# Altium integrated library TI Amplifiers and Linear Operational Amplifier Precision Amplifier Part Two.IntLib: 2300 symbols (part 18 of 81)
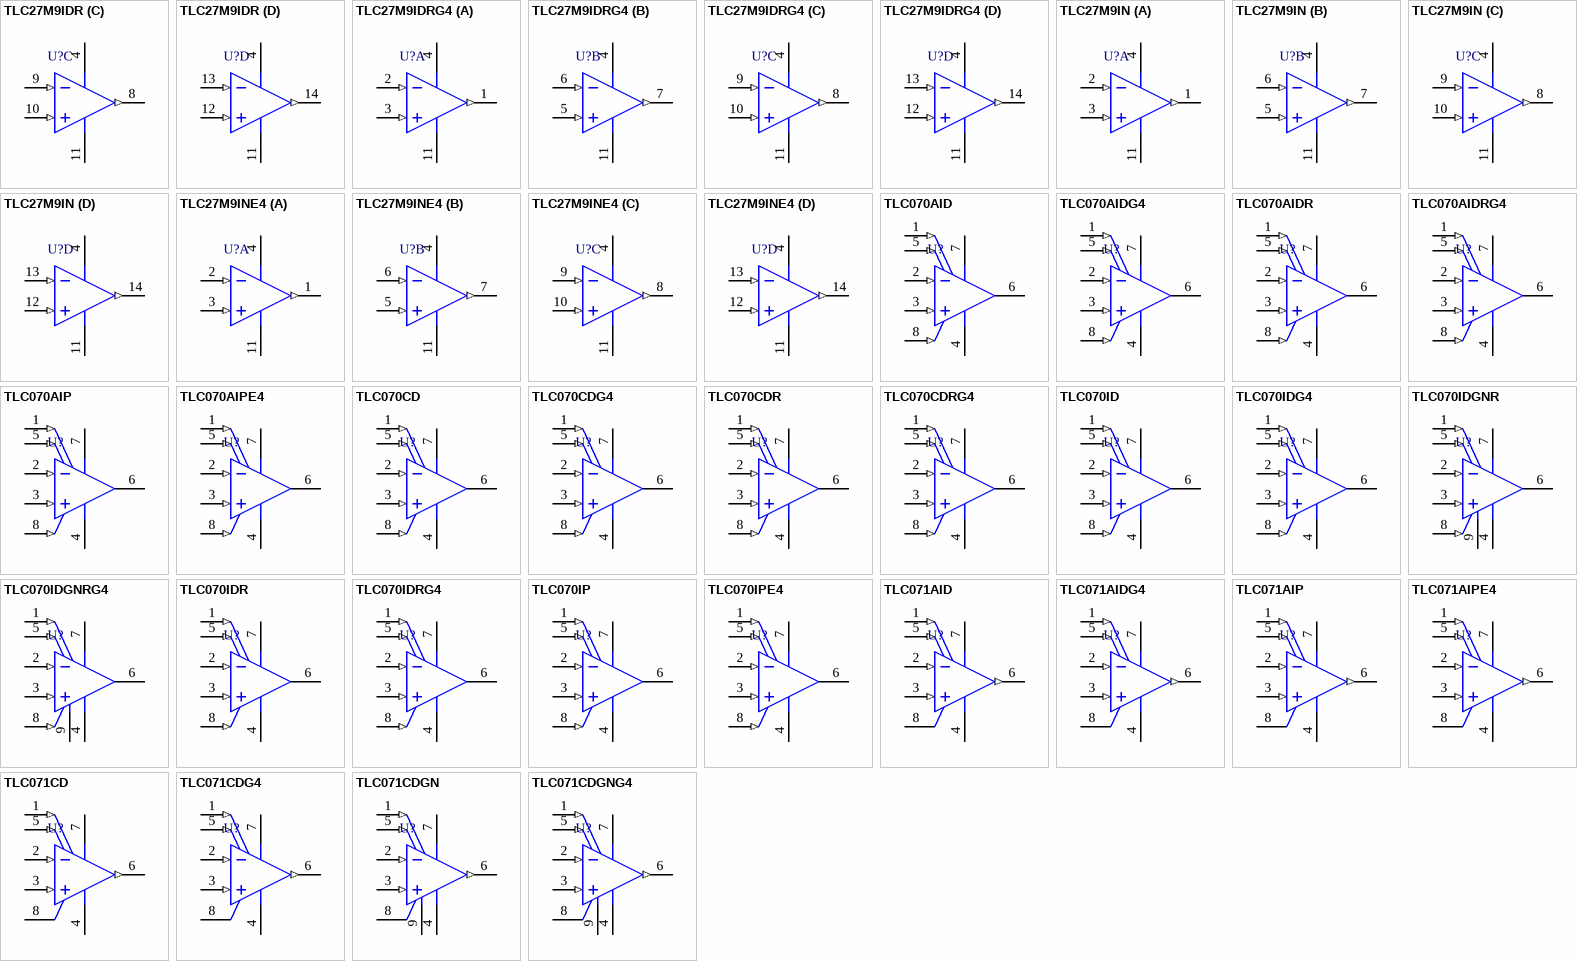
[diagram p153: symbols TLC27M9IDR to TLC071CDGNG4]

## TLC070CDR
designator U?
Single Wide-Bandwidth High-Output-Drive Operational Amplifier with Shutdown, 4.5 to 16 V, 0 to 70 degC, 8-pin SOIC (D8), Green (RoHS & no Sb/Br); Manufacturer: Texas Instruments; PartNumber: TLC070CDR; CMRR(Min)(dB): 80; GBW(Typ)(MHz): 10; IIB(Max)(pA): 50; Iq per channel(Max)(mA): 2.5; Number of Channels: 1; Offset Drift(Typ)(uV/C): 1.2; Packing: LARGE T&R; Rating: Catalog; Slew Rate(Typ)(V/us): 16; Sub Family: High Output Current Amplifier (>=50mA), Low Noise Amp (<=10nV/rtHz), Precision Amplifier; Total Supply Voltage(Min)(+5V is 5, +/-5V is 10): 4.5; Vio (25C)(Max)(mV): 1.9; DatasheetVersion: SLOS219F; PackageVersion: 4040047-3/M, 06/2011; PackageReference: D8; PackageDescription: 8-Pin Plastic Small Outline, Body 4.9 x 3.9 mm, Pitch 1.27 mm; Supplier 1: Digi-Key; Supplier Part Number 1: 296-2413-2-ND; Supplier 2: Digi-Key; Supplier Part Number 2: 296-2413-1-ND; Supplier 3: Digi-Key; Supplier Part Number 3: 296-2413-6-ND; Supplier 4: Mouser; Supplier Part Number 4: 595-TLC070CDR; Eco-Plan: Green (RoHS & no Sb/Br); Total Supply Voltage(Max)(+5V is 5, +/-5V is 10): 16; Mounting Technology: Surface Mount; Code_JEDEC: MS-012; ComponentLink1Description: Manufacturer URL; ComponentLink1URL: http://www.ti.com/; ComponentLink2Description: Datasheet; ComponentLink2URL: http://www.ti.com/lit/ds/symlink/tlc070.pdf; ComponentLink3Description: Package Specification; ComponentLink3URL: http://www.ti.com/litv/pdf/msoi002j
footprint TI-D8_N (SOIC, 8-Leads, Body 4.9x3.9mm, Pitch 1.27mm, IPC Medium Density)
footprint TI-D8_L (SOIC, 8-Leads, Body 4.9x3.9mm, Pitch 1.27mm, IPC High Density)
footprint TI-D8_M (SOIC, 8-Leads, Body 4.9x3.9mm, Pitch 1.27mm, IPC Low Density)
pins: 1 NULL (in), 2 IN- (in), 3 IN+ (in), 4 GND (power), 5 NULL (in), 6 OUT (hiz), 7 VDD (power), 8 ~{SHDN} (in)

## TLC070CDRG4
designator U?
Single Wide-Bandwidth High-Output-Drive Operational Amplifier with Shutdown, 4.5 to 16 V, 0 to 70 degC, 8-pin SOIC (D8), Green (RoHS & no Sb/Br); Manufacturer: Texas Instruments; PartNumber: TLC070CDRG4; CMRR(Min)(dB): 80; GBW(Typ)(MHz): 10; IIB(Max)(pA): 50; Iq per channel(Max)(mA): 2.5; Number of Channels: 1; Offset Drift(Typ)(uV/C): 1.2; Packing: LARGE T&R; Rating: Catalog; Slew Rate(Typ)(V/us): 16; Sub Family: High Output Current Amplifier (>=50mA), Low Noise Amp (<=10nV/rtHz), Precision Amplifier; Total Supply Voltage(Min)(+5V is 5, +/-5V is 10): 4.5; Vio (25C)(Max)(mV): 1.9; DatasheetVersion: SLOS219F; PackageVersion: 4040047-3/M, 06/2011; PackageReference: D8; PackageDescription: 8-Pin Plastic Small Outline, Body 4.9 x 3.9 mm, Pitch 1.27 mm; Supplier 1: Digi-Key; Supplier Part Number 1: TLC070CDRG4-ND; Supplier 2: Mouser; Supplier Part Number 2: 595-TLC070CDRG4; Eco-Plan: Green (RoHS & no Sb/Br); Total Supply Voltage(Max)(+5V is 5, +/-5V is 10): 16; Mounting Technology: Surface Mount; Code_JEDEC: MS-012; ComponentLink1Description: Manufacturer URL; ComponentLink1URL: http://www.ti.com/; ComponentLink2Description: Datasheet; ComponentLink2URL: http://www.ti.com/lit/ds/symlink/tlc070.pdf; ComponentLink3Description: Package Specification; ComponentLink3URL: http://www.ti.com/litv/pdf/msoi002j
footprint TI-D8_N (SOIC, 8-Leads, Body 4.9x3.9mm, Pitch 1.27mm, IPC Medium Density)
footprint TI-D8_L (SOIC, 8-Leads, Body 4.9x3.9mm, Pitch 1.27mm, IPC High Density)
footprint TI-D8_M (SOIC, 8-Leads, Body 4.9x3.9mm, Pitch 1.27mm, IPC Low Density)
pins: 1 NULL (in), 2 IN- (in), 3 IN+ (in), 4 GND (power), 5 NULL (in), 6 OUT (hiz), 7 VDD (power), 8 ~{SHDN} (in)

## TLC070ID
designator U?
Single Wide-Bandwidth High-Output-Drive Operational Amplifier with Shutdown, 4.5 to 16 V, -40 to 125 degC, 8-pin SOIC (D8), Green (RoHS & no Sb/Br); Manufacturer: Texas Instruments; PartNumber: TLC070ID; CMRR(Min)(dB): 80; GBW(Typ)(MHz): 10; IIB(Max)(pA): 50; Iq per channel(Max)(mA): 2.5; Number of Channels: 1; Offset Drift(Typ)(uV/C): 1.2; Packing: TUBE; Rating: Catalog; Slew Rate(Typ)(V/us): 16; Sub Family: High Output Current Amplifier (>=50mA), Low Noise Amp (<=10nV/rtHz), Precision Amplifier; Total Supply Voltage(Min)(+5V is 5, +/-5V is 10): 4.5; Vio (25C)(Max)(mV): 1.9; DatasheetVersion: SLOS219F; PackageVersion: 4040047-3/M, 06/2011; PackageReference: D8; PackageDescription: 8-Pin Plastic Small Outline, Body 4.9 x 3.9 mm, Pitch 1.27 mm; Supplier 1: Digi-Key; Supplier Part Number 1: TLC070ID-ND; Supplier 2: Mouser; Supplier Part Number 2: 595-TLC070ID; Eco-Plan: Green (RoHS & no Sb/Br); Total Supply Voltage(Max)(+5V is 5, +/-5V is 10): 16; Mounting Technology: Surface Mount; Code_JEDEC: MS-012; ComponentLink1Description: Manufacturer URL; ComponentLink1URL: http://www.ti.com/; ComponentLink2Description: Datasheet; ComponentLink2URL: http://www.ti.com/lit/ds/symlink/tlc070.pdf; ComponentLink3Description: Package Specification; ComponentLink3URL: http://www.ti.com/litv/pdf/msoi002j
footprint TI-D8_N (SOIC, 8-Leads, Body 4.9x3.9mm, Pitch 1.27mm, IPC Medium Density)
footprint TI-D8_L (SOIC, 8-Leads, Body 4.9x3.9mm, Pitch 1.27mm, IPC High Density)
footprint TI-D8_M (SOIC, 8-Leads, Body 4.9x3.9mm, Pitch 1.27mm, IPC Low Density)
pins: 1 NULL (in), 2 IN- (in), 3 IN+ (in), 4 GND (power), 5 NULL (in), 6 OUT (hiz), 7 VDD (power), 8 ~{SHDN} (in)

## TLC070IDG4
designator U?
Single Wide-Bandwidth High-Output-Drive Operational Amplifier with Shutdown, 4.5 to 16 V, -40 to 125 degC, 8-pin SOIC (D8), Green (RoHS & no Sb/Br); Manufacturer: Texas Instruments; PartNumber: TLC070IDG4; CMRR(Min)(dB): 80; GBW(Typ)(MHz): 10; IIB(Max)(pA): 50; Iq per channel(Max)(mA): 2.5; Number of Channels: 1; Offset Drift(Typ)(uV/C): 1.2; Packing: TUBE; Rating: Catalog; Slew Rate(Typ)(V/us): 16; Sub Family: High Output Current Amplifier (>=50mA), Low Noise Amp (<=10nV/rtHz), Precision Amplifier; Total Supply Voltage(Min)(+5V is 5, +/-5V is 10): 4.5; Vio (25C)(Max)(mV): 1.9; DatasheetVersion: SLOS219F; PackageVersion: 4040047-3/M, 06/2011; PackageReference: D8; PackageDescription: 8-Pin Plastic Small Outline, Body 4.9 x 3.9 mm, Pitch 1.27 mm; Supplier 1: Digi-Key; Supplier Part Number 1: TLC070IDG4-ND; Supplier 2: Mouser; Supplier Part Number 2: 595-TLC070IDG4; Eco-Plan: Green (RoHS & no Sb/Br); Total Supply Voltage(Max)(+5V is 5, +/-5V is 10): 16; Mounting Technology: Surface Mount; Code_JEDEC: MS-012; ComponentLink1Description: Manufacturer URL; ComponentLink1URL: http://www.ti.com/; ComponentLink2Description: Datasheet; ComponentLink2URL: http://www.ti.com/lit/ds/symlink/tlc070.pdf; ComponentLink3Description: Package Specification; ComponentLink3URL: http://www.ti.com/litv/pdf/msoi002j
footprint TI-D8_N (SOIC, 8-Leads, Body 4.9x3.9mm, Pitch 1.27mm, IPC Medium Density)
footprint TI-D8_L (SOIC, 8-Leads, Body 4.9x3.9mm, Pitch 1.27mm, IPC High Density)
footprint TI-D8_M (SOIC, 8-Leads, Body 4.9x3.9mm, Pitch 1.27mm, IPC Low Density)
pins: 1 NULL (in), 2 IN- (in), 3 IN+ (in), 4 GND (power), 5 NULL (in), 6 OUT (hiz), 7 VDD (power), 8 ~{SHDN} (in)

## TLC070IDGNR
designator U?
Single Wide-Bandwidth High-Output-Drive Operational Amplifier with Shutdown, 4.5 to 16 V, -40 to 125 degC, 8-pin SOP (DGN8), Green (RoHS & no Sb/Br); Manufacturer: Texas Instruments; PartNumber: TLC070IDGNR; CMRR(Min)(dB): 80; GBW(Typ)(MHz): 10; IIB(Max)(pA): 50; Iq per channel(Max)(mA): 2.5; Number of Channels: 1; Offset Drift(Typ)(uV/C): 1.2; Packing: LARGE T&R; Rating: Catalog; Slew Rate(Typ)(V/us): 16; Sub Family: High Output Current Amplifier (>=50mA), Low Noise Amp (<=10nV/rtHz), Precision Amplifier; Total Supply Voltage(Min)(+5V is 5, +/-5V is 10): 4.5; Vio (25C)(Max)(mV): 1.9; DatasheetVersion: SLOS219F; PackageVersion: 4073271/F, 05/2011; PackageReference: DGN8-1760X1425TP; PackageDescription: 8-Pin Plastic Small Outline, Body 3 x 3 mm, Pitch 0.65 mm; Supplier 1: Digi-Key; Supplier Part Number 1: 296-7218-2-ND; Supplier 2: Digi-Key; Supplier Part Number 2: 296-7218-1-ND; Supplier 3: Digi-Key; Supplier Part Number 3: 296-7218-6-ND; Supplier 4: Mouser; Supplier Part Number 4: 595-TLC070IDGNR; Eco-Plan: Green (RoHS & no Sb/Br); Total Supply Voltage(Max)(+5V is 5, +/-5V is 10): 16; Mounting Technology: Surface Mount; Code_JEDEC: MO-187; ComponentLink1Description: Manufacturer URL; ComponentLink1URL: http://www.ti.com/; ComponentLink2Description: Datasheet; ComponentLink2URL: http://www.ti.com/lit/ds/symlink/tlc070.pdf; ComponentLink3Description: Package Specification; ComponentLink3URL: http://www.ti.com/litv/pdf/mpds046e
footprint TI-DGN8-1760X1425TP_N (SOP, 8-Leads, Body 3x3mm, Pitch 0.65mm, Thermal Pad 1.89x1.57mm, IPC Medium Density)
footprint TI-DGN8-1760X1425TP_L (SOP, 8-Leads, Body 3x3mm, Pitch 0.65mm, Thermal Pad 1.89x1.57mm, IPC High Density)
footprint TI-DGN8-1760X1425TP_M (SOP, 8-Leads, Body 3x3mm, Pitch 0.65mm, Thermal Pad 1.89x1.57mm, IPC Low Density)
pins: 1 NULL (in), 2 IN- (in), 3 IN+ (in), 4 GND (power), 5 NULL (in), 6 OUT (hiz), 7 VDD (power), 8 ~{SHDN} (in), 9 EP (power)

## TLC070IDGNRG4
designator U?
Single Wide-Bandwidth High-Output-Drive Operational Amplifier with Shutdown, 4.5 to 16 V, -40 to 125 degC, 8-pin SOP (DGN8), Green (RoHS & no Sb/Br); Manufacturer: Texas Instruments; PartNumber: TLC070IDGNRG4; CMRR(Min)(dB): 80; GBW(Typ)(MHz): 10; IIB(Max)(pA): 50; Iq per channel(Max)(mA): 2.5; Number of Channels: 1; Offset Drift(Typ)(uV/C): 1.2; Packing: LARGE T&R; Rating: Catalog; Slew Rate(Typ)(V/us): 16; Sub Family: High Output Current Amplifier (>=50mA), Low Noise Amp (<=10nV/rtHz), Precision Amplifier; Total Supply Voltage(Min)(+5V is 5, +/-5V is 10): 4.5; Vio (25C)(Max)(mV): 1.9; DatasheetVersion: SLOS219F; PackageVersion: 4073271/F, 05/2011; PackageReference: DGN8-1760X1425TP; PackageDescription: 8-Pin Plastic Small Outline, Body 3 x 3 mm, Pitch 0.65 mm; Supplier 1: Digi-Key; Supplier Part Number 1: TLC070IDGNRG4-ND; Supplier 2: Mouser; Supplier Part Number 2: 595-TLC070IDGNRG4; Eco-Plan: Green (RoHS & no Sb/Br); Total Supply Voltage(Max)(+5V is 5, +/-5V is 10): 16; Mounting Technology: Surface Mount; Code_JEDEC: MO-187; ComponentLink1Description: Manufacturer URL; ComponentLink1URL: http://www.ti.com/; ComponentLink2Description: Datasheet; ComponentLink2URL: http://www.ti.com/lit/ds/symlink/tlc070.pdf; ComponentLink3Description: Package Specification; ComponentLink3URL: http://www.ti.com/litv/pdf/mpds046e
footprint TI-DGN8-1760X1425TP_N (SOP, 8-Leads, Body 3x3mm, Pitch 0.65mm, Thermal Pad 1.89x1.57mm, IPC Medium Density)
footprint TI-DGN8-1760X1425TP_L (SOP, 8-Leads, Body 3x3mm, Pitch 0.65mm, Thermal Pad 1.89x1.57mm, IPC High Density)
footprint TI-DGN8-1760X1425TP_M (SOP, 8-Leads, Body 3x3mm, Pitch 0.65mm, Thermal Pad 1.89x1.57mm, IPC Low Density)
pins: 1 NULL (in), 2 IN- (in), 3 IN+ (in), 4 GND (power), 5 NULL (in), 6 OUT (hiz), 7 VDD (power), 8 ~{SHDN} (in), 9 EP (power)

## TLC070IDR
designator U?
Single Wide-Bandwidth High-Output-Drive Operational Amplifier with Shutdown, 4.5 to 16 V, -40 to 125 degC, 8-pin SOIC (D8), Green (RoHS & no Sb/Br); Manufacturer: Texas Instruments; PartNumber: TLC070IDR; CMRR(Min)(dB): 80; GBW(Typ)(MHz): 10; IIB(Max)(pA): 50; Iq per channel(Max)(mA): 2.5; Number of Channels: 1; Offset Drift(Typ)(uV/C): 1.2; Packing: LARGE T&R; Rating: Catalog; Slew Rate(Typ)(V/us): 16; Sub Family: High Output Current Amplifier (>=50mA), Low Noise Amp (<=10nV/rtHz), Precision Amplifier; Total Supply Voltage(Min)(+5V is 5, +/-5V is 10): 4.5; Vio (25C)(Max)(mV): 1.9; DatasheetVersion: SLOS219F; PackageVersion: 4040047-3/M, 06/2011; PackageReference: D8; PackageDescription: 8-Pin Plastic Small Outline, Body 4.9 x 3.9 mm, Pitch 1.27 mm; Supplier 1: Digi-Key; Supplier Part Number 1: 296-7219-2-ND; Supplier 2: Digi-Key; Supplier Part Number 2: 296-7219-1-ND; Supplier 3: Digi-Key; Supplier Part Number 3: 296-7219-6-ND; Supplier 4: Mouser; Supplier Part Number 4: 595-TLC070IDR; Eco-Plan: Green (RoHS & no Sb/Br); Total Supply Voltage(Max)(+5V is 5, +/-5V is 10): 16; Mounting Technology: Surface Mount; Code_JEDEC: MS-012; ComponentLink1Description: Manufacturer URL; ComponentLink1URL: http://www.ti.com/; ComponentLink2Description: Datasheet; ComponentLink2URL: http://www.ti.com/lit/ds/symlink/tlc070.pdf; ComponentLink3Description: Package Specification; ComponentLink3URL: http://www.ti.com/litv/pdf/msoi002j
footprint TI-D8_N (SOIC, 8-Leads, Body 4.9x3.9mm, Pitch 1.27mm, IPC Medium Density)
footprint TI-D8_L (SOIC, 8-Leads, Body 4.9x3.9mm, Pitch 1.27mm, IPC High Density)
footprint TI-D8_M (SOIC, 8-Leads, Body 4.9x3.9mm, Pitch 1.27mm, IPC Low Density)
pins: 1 NULL (in), 2 IN- (in), 3 IN+ (in), 4 GND (power), 5 NULL (in), 6 OUT (hiz), 7 VDD (power), 8 ~{SHDN} (in)

## TLC070IDRG4
designator U?
Single Wide-Bandwidth High-Output-Drive Operational Amplifier with Shutdown, 4.5 to 16 V, -40 to 125 degC, 8-pin SOIC (D8), Green (RoHS & no Sb/Br); Manufacturer: Texas Instruments; PartNumber: TLC070IDRG4; CMRR(Min)(dB): 80; GBW(Typ)(MHz): 10; IIB(Max)(pA): 50; Iq per channel(Max)(mA): 2.5; Number of Channels: 1; Offset Drift(Typ)(uV/C): 1.2; Packing: LARGE T&R; Rating: Catalog; Slew Rate(Typ)(V/us): 16; Sub Family: High Output Current Amplifier (>=50mA), Low Noise Amp (<=10nV/rtHz), Precision Amplifier; Total Supply Voltage(Min)(+5V is 5, +/-5V is 10): 4.5; Vio (25C)(Max)(mV): 1.9; DatasheetVersion: SLOS219F; PackageVersion: 4040047-3/M, 06/2011; PackageReference: D8; PackageDescription: 8-Pin Plastic Small Outline, Body 4.9 x 3.9 mm, Pitch 1.27 mm; Supplier 1: Digi-Key; Supplier Part Number 1: TLC070IDRG4-ND; Supplier 2: Mouser; Supplier Part Number 2: 595-TLC070IDRG4; Eco-Plan: Green (RoHS & no Sb/Br); Total Supply Voltage(Max)(+5V is 5, +/-5V is 10): 16; Mounting Technology: Surface Mount; Code_JEDEC: MS-012; ComponentLink1Description: Manufacturer URL; ComponentLink1URL: http://www.ti.com/; ComponentLink2Description: Datasheet; ComponentLink2URL: http://www.ti.com/lit/ds/symlink/tlc070.pdf; ComponentLink3Description: Package Specification; ComponentLink3URL: http://www.ti.com/litv/pdf/msoi002j
footprint TI-D8_N (SOIC, 8-Leads, Body 4.9x3.9mm, Pitch 1.27mm, IPC Medium Density)
footprint TI-D8_L (SOIC, 8-Leads, Body 4.9x3.9mm, Pitch 1.27mm, IPC High Density)
footprint TI-D8_M (SOIC, 8-Leads, Body 4.9x3.9mm, Pitch 1.27mm, IPC Low Density)
pins: 1 NULL (in), 2 IN- (in), 3 IN+ (in), 4 GND (power), 5 NULL (in), 6 OUT (hiz), 7 VDD (power), 8 ~{SHDN} (in)

## TLC070IP
designator U?
Single Wide-Bandwidth High-Output-Drive Operational Amplifier with Shutdown, 4.5 to 16 V, -40 to 125 degC, 8-pin DIP (P8), Pb-Free (RoHS); Manufacturer: Texas Instruments; PartNumber: TLC070IP; CMRR(Min)(dB): 80; GBW(Typ)(MHz): 10; IIB(Max)(pA): 50; Iq per channel(Max)(mA): 2.5; Number of Channels: 1; Offset Drift(Typ)(uV/C): 1.2; Packing: TUBE; Rating: Catalog; Slew Rate(Typ)(V/us): 16; Sub Family: High Output Current Amplifier (>=50mA), Low Noise Amp (<=10nV/rtHz), Precision Amplifier; Total Supply Voltage(Min)(+5V is 5, +/-5V is 10): 4.5; Vio (25C)(Max)(mV): 1.9; DatasheetVersion: SLOS219F; PackageVersion: 4040082/E, 04/2010; PackageReference: P8; PackageDescription: 8-Pin Plastic In-Line, Body 9.59 x 6.35 mm, Pitch 2.54 mm; Supplier 1: Digi-Key; Supplier Part Number 1: 296-7220-5-ND; Supplier 2: Mouser; Supplier Part Number 2: 595-TLC070IP; Eco-Plan: Pb-Free (RoHS); Total Supply Voltage(Max)(+5V is 5, +/-5V is 10): 16; Mounting Technology: Through Hole; Code_JEDEC: MS-001; ComponentLink1Description: Manufacturer URL; ComponentLink1URL: http://www.ti.com/; ComponentLink2Description: Datasheet; ComponentLink2URL: http://www.ti.com/lit/ds/symlink/tlc070.pdf; ComponentLink3Description: Package Specification; ComponentLink3URL: http://www.ti.com/litv/pdf/mpdi001b
footprint TI-P8 (DIP, 8-Leads, Body 9.59x6.35mm, Pitch 2.54mm)
pins: 1 NULL (in), 2 IN- (in), 3 IN+ (in), 4 GND (power), 5 NULL (in), 6 OUT (hiz), 7 VDD (power), 8 ~{SHDN} (in)

## TLC070IPE4
designator U?
Single Wide-Bandwidth High-Output-Drive Operational Amplifier with Shutdown, 4.5 to 16 V, -40 to 125 degC, 8-pin DIP (P8), Pb-Free (RoHS); Manufacturer: Texas Instruments; PartNumber: TLC070IPE4; CMRR(Min)(dB): 80; GBW(Typ)(MHz): 10; IIB(Max)(pA): 50; Iq per channel(Max)(mA): 2.5; Number of Channels: 1; Offset Drift(Typ)(uV/C): 1.2; Packing: TUBE; Rating: Catalog; Slew Rate(Typ)(V/us): 16; Sub Family: High Output Current Amplifier (>=50mA), Low Noise Amp (<=10nV/rtHz), Precision Amplifier; Total Supply Voltage(Min)(+5V is 5, +/-5V is 10): 4.5; Vio (25C)(Max)(mV): 1.9; DatasheetVersion: SLOS219F; PackageVersion: 4040082/E, 04/2010; PackageReference: P8; PackageDescription: 8-Pin Plastic In-Line, Body 9.59 x 6.35 mm, Pitch 2.54 mm; Supplier 1: Digi-Key; Supplier Part Number 1: TLC070IPE4-ND; Supplier 2: Mouser; Supplier Part Number 2: 595-TLC070IPE4; Eco-Plan: Pb-Free (RoHS); Total Supply Voltage(Max)(+5V is 5, +/-5V is 10): 16; Mounting Technology: Through Hole; Code_JEDEC: MS-001; ComponentLink1Description: Manufacturer URL; ComponentLink1URL: http://www.ti.com/; ComponentLink2Description: Datasheet; ComponentLink2URL: http://www.ti.com/lit/ds/symlink/tlc070.pdf; ComponentLink3Description: Package Specification; ComponentLink3URL: http://www.ti.com/litv/pdf/mpdi001b
footprint TI-P8 (DIP, 8-Leads, Body 9.59x6.35mm, Pitch 2.54mm)
pins: 1 NULL (in), 2 IN- (in), 3 IN+ (in), 4 GND (power), 5 NULL (in), 6 OUT (hiz), 7 VDD (power), 8 ~{SHDN} (in)

## TLC071AID
designator U?
Single Wide Bandwidth High-Output-Drive Operational Amplifier, 4.5 to 16 V, -40 to 125 degC, 8-pin SOIC (D8), Green (RoHS & no Sb/Br); Manufacturer: Texas Instruments; PartNumber: TLC071AID; CMRR(Min)(dB): 80; GBW(Typ)(MHz): 10; IIB(Max)(pA): 50; Iq per channel(Max)(mA): 2.5; Number of Channels: 1; Offset Drift(Typ)(uV/C): 1.2; Packing: TUBE; Rating: Catalog; Slew Rate(Typ)(V/us): 16; Sub Family: High Output Current Amplifier (>=50mA), Low Noise Amp (<=10nV/rtHz), Precision Amplifier; Total Supply Voltage(Min)(+5V is 5, +/-5V is 10): 4.5; Vio (25C)(Max)(mV): 1.4; DatasheetVersion: SLOS219F; PackageVersion: 4040047-3/M, 06/2011; PackageReference: D8; PackageDescription: 8-Pin Plastic Small Outline, Body 4.9 x 3.9 mm, Pitch 1.27 mm; Supplier 1: Digi-Key; Supplier Part Number 1: 296-34319-5-ND; Supplier 2: Farnell; Supplier Part Number 2: 1459716; Supplier 3: Mouser; Supplier Part Number 3: 595-TLC071AID; Eco-Plan: Green (RoHS & no Sb/Br); Total Supply Voltage(Max)(+5V is 5, +/-5V is 10): 16; Mounting Technology: Surface Mount; Code_JEDEC: MS-012; ComponentLink1Description: Manufacturer URL; ComponentLink1URL: http://www.ti.com/; ComponentLink2Description: Datasheet; ComponentLink2URL: http://www.ti.com/lit/ds/symlink/tlc071a.pdf; ComponentLink3Description: Package Specification; ComponentLink3URL: http://www.ti.com/litv/pdf/msoi002j
footprint TI-D8_N (SOIC, 8-Leads, Body 4.9x3.9mm, Pitch 1.27mm, IPC Medium Density)
footprint TI-D8_L (SOIC, 8-Leads, Body 4.9x3.9mm, Pitch 1.27mm, IPC High Density)
footprint TI-D8_M (SOIC, 8-Leads, Body 4.9x3.9mm, Pitch 1.27mm, IPC Low Density)
pins: 1 NULL (in), 2 IN- (in), 3 IN+ (in), 4 GND (power), 5 NULL (in), 6 OUT (out), 7 VDD (power), 8 NC

## TLC071AIDG4
designator U?
Single Wide Bandwidth High-Output-Drive Operational Amplifier, 4.5 to 16 V, -40 to 125 degC, 8-pin SOIC (D8), Green (RoHS & no Sb/Br); Manufacturer: Texas Instruments; PartNumber: TLC071AIDG4; CMRR(Min)(dB): 80; GBW(Typ)(MHz): 10; IIB(Max)(pA): 50; Iq per channel(Max)(mA): 2.5; Number of Channels: 1; Offset Drift(Typ)(uV/C): 1.2; Packing: TUBE; Rating: Catalog; Slew Rate(Typ)(V/us): 16; Sub Family: High Output Current Amplifier (>=50mA), Low Noise Amp (<=10nV/rtHz), Precision Amplifier; Total Supply Voltage(Min)(+5V is 5, +/-5V is 10): 4.5; Vio (25C)(Max)(mV): 1.4; DatasheetVersion: SLOS219F; PackageVersion: 4040047-3/M, 06/2011; PackageReference: D8; PackageDescription: 8-Pin Plastic Small Outline, Body 4.9 x 3.9 mm, Pitch 1.27 mm; Supplier 1: Digi-Key; Supplier Part Number 1: TLC071AIDG4-ND; Supplier 2: Mouser; Supplier Part Number 2: 595-TLC071AIDG4; Eco-Plan: Green (RoHS & no Sb/Br); Total Supply Voltage(Max)(+5V is 5, +/-5V is 10): 16; Mounting Technology: Surface Mount; Code_JEDEC: MS-012; ComponentLink1Description: Manufacturer URL; ComponentLink1URL: http://www.ti.com/; ComponentLink2Description: Datasheet; ComponentLink2URL: http://www.ti.com/lit/ds/symlink/tlc071a.pdf; ComponentLink3Description: Package Specification; ComponentLink3URL: http://www.ti.com/litv/pdf/msoi002j
footprint TI-D8_N (SOIC, 8-Leads, Body 4.9x3.9mm, Pitch 1.27mm, IPC Medium Density)
footprint TI-D8_L (SOIC, 8-Leads, Body 4.9x3.9mm, Pitch 1.27mm, IPC High Density)
footprint TI-D8_M (SOIC, 8-Leads, Body 4.9x3.9mm, Pitch 1.27mm, IPC Low Density)
pins: 1 NULL (in), 2 IN- (in), 3 IN+ (in), 4 GND (power), 5 NULL (in), 6 OUT (out), 7 VDD (power), 8 NC

## TLC071AIP
designator U?
Single Wide Bandwidth High-Output-Drive Operational Amplifier, 4.5 to 16 V, -40 to 125 degC, 8-pin DIP (P8), Pb-Free (RoHS); Manufacturer: Texas Instruments; PartNumber: TLC071AIP; CMRR(Min)(dB): 80; GBW(Typ)(MHz): 10; IIB(Max)(pA): 50; Iq per channel(Max)(mA): 2.5; Number of Channels: 1; Offset Drift(Typ)(uV/C): 1.2; Packing: TUBE; Rating: Catalog; Slew Rate(Typ)(V/us): 16; Sub Family: High Output Current Amplifier (>=50mA), Low Noise Amp (<=10nV/rtHz), Precision Amplifier; Total Supply Voltage(Min)(+5V is 5, +/-5V is 10): 4.5; Vio (25C)(Max)(mV): 1.4; DatasheetVersion: SLOS219F; PackageVersion: 4040082/E, 04/2010; PackageReference: P8; PackageDescription: 8-Pin Plastic In-Line, Body 9.59 x 6.35 mm, Pitch 2.54 mm; Supplier 1: Digi-Key; Supplier Part Number 1: 296-7221-5-ND; Supplier 2: Farnell; Supplier Part Number 2: 1533760; Supplier 3: Newark; Supplier Part Number 3: 76C6638; Supplier 4: Mouser; Supplier Part Number 4: 595-TLC071AIP; Eco-Plan: Pb-Free (RoHS); Total Supply Voltage(Max)(+5V is 5, +/-5V is 10): 16; Mounting Technology: Through Hole; Code_JEDEC: MS-001; ComponentLink1Description: Manufacturer URL; ComponentLink1URL: http://www.ti.com/; ComponentLink2Description: Datasheet; ComponentLink2URL: http://www.ti.com/lit/ds/symlink/tlc071a.pdf; ComponentLink3Description: Package Specification; ComponentLink3URL: http://www.ti.com/litv/pdf/mpdi001b
footprint TI-P8 (DIP, 8-Leads, Body 9.59x6.35mm, Pitch 2.54mm)
pins: 1 NULL (in), 2 IN- (in), 3 IN+ (in), 4 GND (power), 5 NULL (in), 6 OUT (out), 7 VDD (power), 8 NC

## TLC071AIPE4
designator U?
Single Wide Bandwidth High-Output-Drive Operational Amplifier, 4.5 to 16 V, -40 to 125 degC, 8-pin DIP (P8), Pb-Free (RoHS); Manufacturer: Texas Instruments; PartNumber: TLC071AIPE4; CMRR(Min)(dB): 80; GBW(Typ)(MHz): 10; IIB(Max)(pA): 50; Iq per channel(Max)(mA): 2.5; Number of Channels: 1; Offset Drift(Typ)(uV/C): 1.2; Packing: TUBE; Rating: Catalog; Slew Rate(Typ)(V/us): 16; Sub Family: High Output Current Amplifier (>=50mA), Low Noise Amp (<=10nV/rtHz), Precision Amplifier; Total Supply Voltage(Min)(+5V is 5, +/-5V is 10): 4.5; Vio (25C)(Max)(mV): 1.4; DatasheetVersion: SLOS219F; PackageVersion: 4040082/E, 04/2010; PackageReference: P8; PackageDescription: 8-Pin Plastic In-Line, Body 9.59 x 6.35 mm, Pitch 2.54 mm; Supplier 1: Digi-Key; Supplier Part Number 1: TLC071AIPE4-ND; Supplier 2: Mouser; Supplier Part Number 2: 595-TLC071AIPE4; Eco-Plan: Pb-Free (RoHS); Total Supply Voltage(Max)(+5V is 5, +/-5V is 10): 16; Mounting Technology: Through Hole; Code_JEDEC: MS-001; ComponentLink1Description: Manufacturer URL; ComponentLink1URL: http://www.ti.com/; ComponentLink2Description: Datasheet; ComponentLink2URL: http://www.ti.com/lit/ds/symlink/tlc071a.pdf; ComponentLink3Description: Package Specification; ComponentLink3URL: http://www.ti.com/litv/pdf/mpdi001b
footprint TI-P8 (DIP, 8-Leads, Body 9.59x6.35mm, Pitch 2.54mm)
pins: 1 NULL (in), 2 IN- (in), 3 IN+ (in), 4 GND (power), 5 NULL (in), 6 OUT (out), 7 VDD (power), 8 NC

## TLC071CD
designator U?
Single Wide-Bandwidth High-Output-Drive Operational Amplifier, 4.5 to 16 V, 0 to 70 degC, 8-pin SOIC (D8), Green (RoHS & no Sb/Br); Manufacturer: Texas Instruments; PartNumber: TLC071CD; CMRR(Min)(dB): 80; GBW(Typ)(MHz): 10; IIB(Max)(pA): 50; Iq per channel(Max)(mA): 2.5; Number of Channels: 1; Offset Drift(Typ)(uV/C): 1.2; Packing: TUBE; Rating: Catalog; Slew Rate(Typ)(V/us): 16; Sub Family: High Output Current Amplifier (>=50mA), Low Noise Amp (<=10nV/rtHz), Precision Amplifier; Total Supply Voltage(Min)(+5V is 5, +/-5V is 10): 4.5; Vio (25C)(Max)(mV): 1.9; DatasheetVersion: SLOS219F; PackageVersion: 4040047-3/M, 06/2011; PackageReference: D8; PackageDescription: 8-Pin Plastic Small Outline, Body 4.9 x 3.9 mm, Pitch 1.27 mm; Supplier 1: Digi-Key; Supplier Part Number 1: 296-2414-5-ND; Supplier 2: Newark; Supplier Part Number 2: 67K1255; Supplier 3: Mouser; Supplier Part Number 3: 595-TLC071CD; Eco-Plan: Green (RoHS & no Sb/Br); Total Supply Voltage(Max)(+5V is 5, +/-5V is 10): 16; Mounting Technology: Surface Mount; Code_JEDEC: MS-012; ComponentLink1Description: Manufacturer URL; ComponentLink1URL: http://www.ti.com/; ComponentLink2Description: Datasheet; ComponentLink2URL: http://www.ti.com/lit/ds/symlink/tlc071.pdf; ComponentLink3Description: Package Specification; ComponentLink3URL: http://www.ti.com/litv/pdf/msoi002j
footprint TI-D8_N (SOIC, 8-Leads, Body 4.9x3.9mm, Pitch 1.27mm, IPC Medium Density)
footprint TI-D8_L (SOIC, 8-Leads, Body 4.9x3.9mm, Pitch 1.27mm, IPC High Density)
footprint TI-D8_M (SOIC, 8-Leads, Body 4.9x3.9mm, Pitch 1.27mm, IPC Low Density)
pins: 1 NULL (in), 2 IN- (in), 3 IN+ (in), 4 GND (power), 5 NULL (in), 6 OUT (out), 7 VDD (power), 8 NC

## TLC071CDG4
designator U?
Single Wide-Bandwidth High-Output-Drive Operational Amplifier, 4.5 to 16 V, 0 to 70 degC, 8-pin SOIC (D8), Green (RoHS & no Sb/Br); Manufacturer: Texas Instruments; PartNumber: TLC071CDG4; CMRR(Min)(dB): 80; GBW(Typ)(MHz): 10; IIB(Max)(pA): 50; Iq per channel(Max)(mA): 2.5; Number of Channels: 1; Offset Drift(Typ)(uV/C): 1.2; Packing: TUBE; Rating: Catalog; Slew Rate(Typ)(V/us): 16; Sub Family: High Output Current Amplifier (>=50mA), Low Noise Amp (<=10nV/rtHz), Precision Amplifier; Total Supply Voltage(Min)(+5V is 5, +/-5V is 10): 4.5; Vio (25C)(Max)(mV): 1.9; DatasheetVersion: SLOS219F; PackageVersion: 4040047-3/M, 06/2011; PackageReference: D8; PackageDescription: 8-Pin Plastic Small Outline, Body 4.9 x 3.9 mm, Pitch 1.27 mm; Supplier 1: Digi-Key; Supplier Part Number 1: TLC071CDG4-ND; Supplier 2: Mouser; Supplier Part Number 2: 595-TLC071CDG4; Eco-Plan: Green (RoHS & no Sb/Br); Total Supply Voltage(Max)(+5V is 5, +/-5V is 10): 16; Mounting Technology: Surface Mount; Code_JEDEC: MS-012; ComponentLink1Description: Manufacturer URL; ComponentLink1URL: http://www.ti.com/; ComponentLink2Description: Datasheet; ComponentLink2URL: http://www.ti.com/lit/ds/symlink/tlc071.pdf; ComponentLink3Description: Package Specification; ComponentLink3URL: http://www.ti.com/litv/pdf/msoi002j
footprint TI-D8_N (SOIC, 8-Leads, Body 4.9x3.9mm, Pitch 1.27mm, IPC Medium Density)
footprint TI-D8_L (SOIC, 8-Leads, Body 4.9x3.9mm, Pitch 1.27mm, IPC High Density)
footprint TI-D8_M (SOIC, 8-Leads, Body 4.9x3.9mm, Pitch 1.27mm, IPC Low Density)
pins: 1 NULL (in), 2 IN- (in), 3 IN+ (in), 4 GND (power), 5 NULL (in), 6 OUT (out), 7 VDD (power), 8 NC

## TLC071CDGN
designator U?
Single Wide-Bandwidth High-Output-Drive Operational Amplifier, 4.5 to 16 V, 0 to 70 degC, 8-pin SOP (DGN8), Green (RoHS & no Sb/Br); Manufacturer: Texas Instruments; PartNumber: TLC071CDGN; CMRR(Min)(dB): 80; GBW(Typ)(MHz): 10; IIB(Max)(pA): 50; Iq per channel(Max)(mA): 2.5; Number of Channels: 1; Offset Drift(Typ)(uV/C): 1.2; Packing: TUBE; Rating: Catalog; Slew Rate(Typ)(V/us): 16; Sub Family: High Output Current Amplifier (>=50mA), Low Noise Amp (<=10nV/rtHz), Precision Amplifier; Total Supply Voltage(Min)(+5V is 5, +/-5V is 10): 4.5; Vio (25C)(Max)(mV): 1.9; DatasheetVersion: SLOS219F; PackageVersion: 4073271/F, 05/2011; PackageReference: DGN8-1760X1425TP; PackageDescription: 8-Pin Plastic Small Outline, Body 3 x 3 mm, Pitch 0.65 mm; Supplier 1: Digi-Key; Supplier Part Number 1: 296-34320-5-ND; Supplier 2: Mouser; Supplier Part Number 2: 595-TLC071CDGN; Eco-Plan: Green (RoHS & no Sb/Br); Total Supply Voltage(Max)(+5V is 5, +/-5V is 10): 16; Mounting Technology: Surface Mount; Code_JEDEC: MO-187; ComponentLink1Description: Manufacturer URL; ComponentLink1URL: http://www.ti.com/; ComponentLink2Description: Datasheet; ComponentLink2URL: http://www.ti.com/lit/ds/symlink/tlc071.pdf; ComponentLink3Description: Package Specification; ComponentLink3URL: http://www.ti.com/litv/pdf/mpds046e
footprint TI-DGN8-1760X1425TP_N (SOP, 8-Leads, Body 3x3mm, Pitch 0.65mm, Thermal Pad 1.89x1.57mm, IPC Medium Density)
footprint TI-DGN8-1760X1425TP_L (SOP, 8-Leads, Body 3x3mm, Pitch 0.65mm, Thermal Pad 1.89x1.57mm, IPC High Density)
footprint TI-DGN8-1760X1425TP_M (SOP, 8-Leads, Body 3x3mm, Pitch 0.65mm, Thermal Pad 1.89x1.57mm, IPC Low Density)
pins: 1 NULL (in), 2 IN- (in), 3 IN+ (in), 4 GND (power), 5 NULL (in), 6 OUT (out), 7 VDD (power), 8 NC, 9 EP

## TLC071CDGNG4
designator U?
Single Wide-Bandwidth High-Output-Drive Operational Amplifier, 4.5 to 16 V, 0 to 70 degC, 8-pin SOP (DGN8), Green (RoHS & no Sb/Br); Manufacturer: Texas Instruments; PartNumber: TLC071CDGNG4; CMRR(Min)(dB): 80; GBW(Typ)(MHz): 10; IIB(Max)(pA): 50; Iq per channel(Max)(mA): 2.5; Number of Channels: 1; Offset Drift(Typ)(uV/C): 1.2; Packing: TUBE; Rating: Catalog; Slew Rate(Typ)(V/us): 16; Sub Family: High Output Current Amplifier (>=50mA), Low Noise Amp (<=10nV/rtHz), Precision Amplifier; Total Supply Voltage(Min)(+5V is 5, +/-5V is 10): 4.5; Vio (25C)(Max)(mV): 1.9; DatasheetVersion: SLOS219F; PackageVersion: 4073271/F, 05/2011; PackageReference: DGN8-1760X1425TP; PackageDescription: 8-Pin Plastic Small Outline, Body 3 x 3 mm, Pitch 0.65 mm; Supplier 1: Digi-Key; Supplier Part Number 1: TLC071CDGNG4-ND; Supplier 2: Mouser; Supplier Part Number 2: 595-TLC071CDGNG4; Eco-Plan: Green (RoHS & no Sb/Br); Total Supply Voltage(Max)(+5V is 5, +/-5V is 10): 16; Mounting Technology: Surface Mount; Code_JEDEC: MO-187; ComponentLink1Description: Manufacturer URL; ComponentLink1URL: http://www.ti.com/; ComponentLink2Description: Datasheet; ComponentLink2URL: http://www.ti.com/lit/ds/symlink/tlc071.pdf; ComponentLink3Description: Package Specification; ComponentLink3URL: http://www.ti.com/litv/pdf/mpds046e
footprint TI-DGN8-1760X1425TP_N (SOP, 8-Leads, Body 3x3mm, Pitch 0.65mm, Thermal Pad 1.89x1.57mm, IPC Medium Density)
footprint TI-DGN8-1760X1425TP_L (SOP, 8-Leads, Body 3x3mm, Pitch 0.65mm, Thermal Pad 1.89x1.57mm, IPC High Density)
footprint TI-DGN8-1760X1425TP_M (SOP, 8-Leads, Body 3x3mm, Pitch 0.65mm, Thermal Pad 1.89x1.57mm, IPC Low Density)
pins: 1 NULL (in), 2 IN- (in), 3 IN+ (in), 4 GND (power), 5 NULL (in), 6 OUT (out), 7 VDD (power), 8 NC, 9 EP

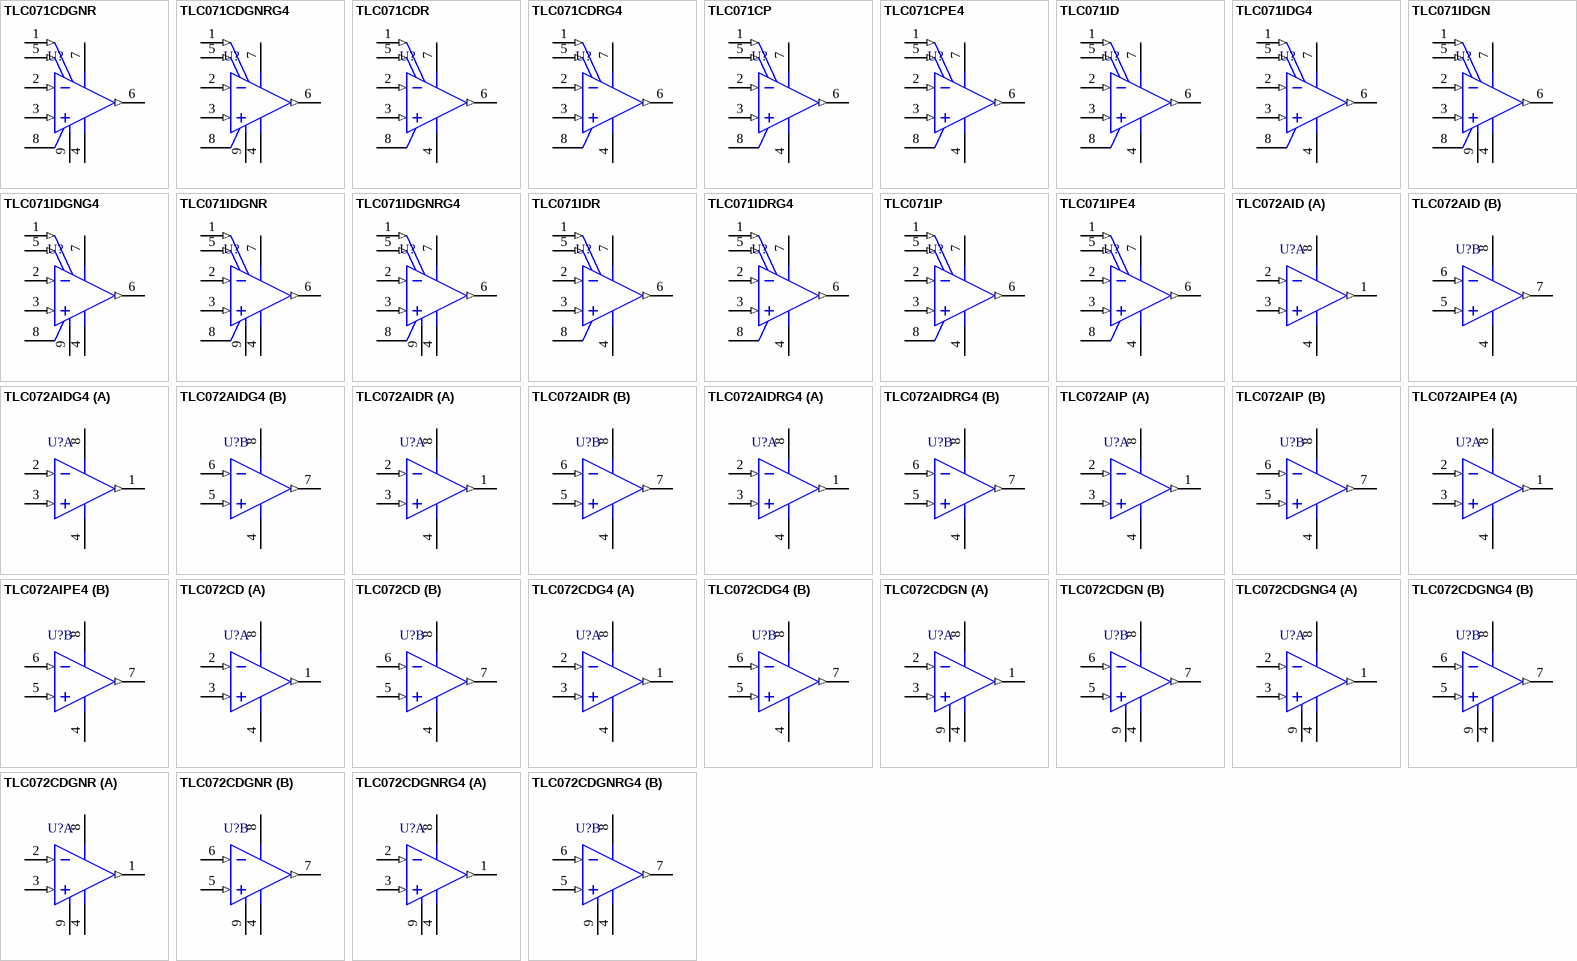
[diagram p31: symbols TLC071CDGNR to TLC072CDGNRG4]

## TLC071CDGNR
designator U?
Single Wide-Bandwidth High-Output-Drive Operational Amplifier, 4.5 to 16 V, 0 to 70 degC, 8-pin SOP (DGN8), Green (RoHS & no Sb/Br); Manufacturer: Texas Instruments; PartNumber: TLC071CDGNR; CMRR(Min)(dB): 80; GBW(Typ)(MHz): 10; IIB(Max)(pA): 50; Iq per channel(Max)(mA): 2.5; Number of Channels: 1; Offset Drift(Typ)(uV/C): 1.2; Packing: LARGE T&R; Rating: Catalog; Slew Rate(Typ)(V/us): 16; Sub Family: High Output Current Amplifier (>=50mA), Low Noise Amp (<=10nV/rtHz), Precision Amplifier; Total Supply Voltage(Min)(+5V is 5, +/-5V is 10): 4.5; Vio (25C)(Max)(mV): 1.9; DatasheetVersion: SLOS219F; PackageVersion: 4073271/F, 05/2011; PackageReference: DGN8-1760X1425TP; PackageDescription: 8-Pin Plastic Small Outline, Body 3 x 3 mm, Pitch 0.65 mm; Supplier 1: Digi-Key; Supplier Part Number 1: 296-7222-2-ND; Supplier 2: Digi-Key; Supplier Part Number 2: 296-7222-1-ND; Supplier 3: Digi-Key; Supplier Part Number 3: 296-7222-6-ND; Supplier 4: Mouser; Supplier Part Number 4: 595-TLC071CDGNR; Eco-Plan: Green (RoHS & no Sb/Br); Total Supply Voltage(Max)(+5V is 5, +/-5V is 10): 16; Mounting Technology: Surface Mount; Code_JEDEC: MO-187; ComponentLink1Description: Manufacturer URL; ComponentLink1URL: http://www.ti.com/; ComponentLink2Description: Datasheet; ComponentLink2URL: http://www.ti.com/lit/ds/symlink/tlc071.pdf; ComponentLink3Description: Package Specification; ComponentLink3URL: http://www.ti.com/litv/pdf/mpds046e
footprint TI-DGN8-1760X1425TP_N (SOP, 8-Leads, Body 3x3mm, Pitch 0.65mm, Thermal Pad 1.89x1.57mm, IPC Medium Density)
footprint TI-DGN8-1760X1425TP_L (SOP, 8-Leads, Body 3x3mm, Pitch 0.65mm, Thermal Pad 1.89x1.57mm, IPC High Density)
footprint TI-DGN8-1760X1425TP_M (SOP, 8-Leads, Body 3x3mm, Pitch 0.65mm, Thermal Pad 1.89x1.57mm, IPC Low Density)
pins: 1 NULL (in), 2 IN- (in), 3 IN+ (in), 4 GND (power), 5 NULL (in), 6 OUT (out), 7 VDD (power), 8 NC, 9 EP

## TLC071CDGNRG4
designator U?
Single Wide-Bandwidth High-Output-Drive Operational Amplifier, 4.5 to 16 V, 0 to 70 degC, 8-pin SOP (DGN8), Green (RoHS & no Sb/Br); Manufacturer: Texas Instruments; PartNumber: TLC071CDGNRG4; CMRR(Min)(dB): 80; GBW(Typ)(MHz): 10; IIB(Max)(pA): 50; Iq per channel(Max)(mA): 2.5; Number of Channels: 1; Offset Drift(Typ)(uV/C): 1.2; Packing: LARGE T&R; Rating: Catalog; Slew Rate(Typ)(V/us): 16; Sub Family: High Output Current Amplifier (>=50mA), Low Noise Amp (<=10nV/rtHz), Precision Amplifier; Total Supply Voltage(Min)(+5V is 5, +/-5V is 10): 4.5; Vio (25C)(Max)(mV): 1.9; DatasheetVersion: SLOS219F; PackageVersion: 4073271/F, 05/2011; PackageReference: DGN8-1760X1425TP; PackageDescription: 8-Pin Plastic Small Outline, Body 3 x 3 mm, Pitch 0.65 mm; Supplier 1: Digi-Key; Supplier Part Number 1: TLC071CDGNRG4-ND; Supplier 2: Mouser; Supplier Part Number 2: 595-TLC071CDGNRG4; Eco-Plan: Green (RoHS & no Sb/Br); Total Supply Voltage(Max)(+5V is 5, +/-5V is 10): 16; Mounting Technology: Surface Mount; Code_JEDEC: MO-187; ComponentLink1Description: Manufacturer URL; ComponentLink1URL: http://www.ti.com/; ComponentLink2Description: Datasheet; ComponentLink2URL: http://www.ti.com/lit/ds/symlink/tlc071.pdf; ComponentLink3Description: Package Specification; ComponentLink3URL: http://www.ti.com/litv/pdf/mpds046e
footprint TI-DGN8-1760X1425TP_N (SOP, 8-Leads, Body 3x3mm, Pitch 0.65mm, Thermal Pad 1.89x1.57mm, IPC Medium Density)
footprint TI-DGN8-1760X1425TP_L (SOP, 8-Leads, Body 3x3mm, Pitch 0.65mm, Thermal Pad 1.89x1.57mm, IPC High Density)
footprint TI-DGN8-1760X1425TP_M (SOP, 8-Leads, Body 3x3mm, Pitch 0.65mm, Thermal Pad 1.89x1.57mm, IPC Low Density)
pins: 1 NULL (in), 2 IN- (in), 3 IN+ (in), 4 GND (power), 5 NULL (in), 6 OUT (out), 7 VDD (power), 8 NC, 9 EP

## TLC071CDR
designator U?
Single Wide-Bandwidth High-Output-Drive Operational Amplifier, 4.5 to 16 V, 0 to 70 degC, 8-pin SOIC (D8), Green (RoHS & no Sb/Br); Manufacturer: Texas Instruments; PartNumber: TLC071CDR; CMRR(Min)(dB): 80; GBW(Typ)(MHz): 10; IIB(Max)(pA): 50; Iq per channel(Max)(mA): 2.5; Number of Channels: 1; Offset Drift(Typ)(uV/C): 1.2; Packing: LARGE T&R; Rating: Catalog; Slew Rate(Typ)(V/us): 16; Sub Family: High Output Current Amplifier (>=50mA), Low Noise Amp (<=10nV/rtHz), Precision Amplifier; Total Supply Voltage(Min)(+5V is 5, +/-5V is 10): 4.5; Vio (25C)(Max)(mV): 1.9; DatasheetVersion: SLOS219F; PackageVersion: 4040047-3/M, 06/2011; PackageReference: D8; PackageDescription: 8-Pin Plastic Small Outline, Body 4.9 x 3.9 mm, Pitch 1.27 mm; Supplier 1: Digi-Key; Supplier Part Number 1: 296-31953-2-ND; Supplier 2: Digi-Key; Supplier Part Number 2: 296-31953-1-ND; Supplier 3: Digi-Key; Supplier Part Number 3: 296-31953-6-ND; Supplier 4: Newark; Supplier Part Number 4: 76C6641; Supplier 5: Mouser; Supplier Part Number 5: 595-TLC071CDR; Eco-Plan: Green (RoHS & no Sb/Br); Total Supply Voltage(Max)(+5V is 5, +/-5V is 10): 16; Mounting Technology: Surface Mount; Code_JEDEC: MS-012; ComponentLink1Description: Manufacturer URL; ComponentLink1URL: http://www.ti.com/; ComponentLink2Description: Datasheet; ComponentLink2URL: http://www.ti.com/lit/ds/symlink/tlc071.pdf; ComponentLink3Description: Package Specification; ComponentLink3URL: http://www.ti.com/litv/pdf/msoi002j
footprint TI-D8_N (SOIC, 8-Leads, Body 4.9x3.9mm, Pitch 1.27mm, IPC Medium Density)
footprint TI-D8_L (SOIC, 8-Leads, Body 4.9x3.9mm, Pitch 1.27mm, IPC High Density)
footprint TI-D8_M (SOIC, 8-Leads, Body 4.9x3.9mm, Pitch 1.27mm, IPC Low Density)
pins: 1 NULL (in), 2 IN- (in), 3 IN+ (in), 4 GND (power), 5 NULL (in), 6 OUT (out), 7 VDD (power), 8 NC

## TLC071CDRG4
designator U?
Single Wide-Bandwidth High-Output-Drive Operational Amplifier, 4.5 to 16 V, 0 to 70 degC, 8-pin SOIC (D8), Green (RoHS & no Sb/Br); Manufacturer: Texas Instruments; PartNumber: TLC071CDRG4; CMRR(Min)(dB): 80; GBW(Typ)(MHz): 10; IIB(Max)(pA): 50; Iq per channel(Max)(mA): 2.5; Number of Channels: 1; Offset Drift(Typ)(uV/C): 1.2; Packing: LARGE T&R; Rating: Catalog; Slew Rate(Typ)(V/us): 16; Sub Family: High Output Current Amplifier (>=50mA), Low Noise Amp (<=10nV/rtHz), Precision Amplifier; Total Supply Voltage(Min)(+5V is 5, +/-5V is 10): 4.5; Vio (25C)(Max)(mV): 1.9; DatasheetVersion: SLOS219F; PackageVersion: 4040047-3/M, 06/2011; PackageReference: D8; PackageDescription: 8-Pin Plastic Small Outline, Body 4.9 x 3.9 mm, Pitch 1.27 mm; Supplier 1: Digi-Key; Supplier Part Number 1: TLC071CDRG4-ND; Supplier 2: Mouser; Supplier Part Number 2: 595-TLC071CDRG4; Eco-Plan: Green (RoHS & no Sb/Br); Total Supply Voltage(Max)(+5V is 5, +/-5V is 10): 16; Mounting Technology: Surface Mount; Code_JEDEC: MS-012; ComponentLink1Description: Manufacturer URL; ComponentLink1URL: http://www.ti.com/; ComponentLink2Description: Datasheet; ComponentLink2URL: http://www.ti.com/lit/ds/symlink/tlc071.pdf; ComponentLink3Description: Package Specification; ComponentLink3URL: http://www.ti.com/litv/pdf/msoi002j
footprint TI-D8_N (SOIC, 8-Leads, Body 4.9x3.9mm, Pitch 1.27mm, IPC Medium Density)
footprint TI-D8_L (SOIC, 8-Leads, Body 4.9x3.9mm, Pitch 1.27mm, IPC High Density)
footprint TI-D8_M (SOIC, 8-Leads, Body 4.9x3.9mm, Pitch 1.27mm, IPC Low Density)
pins: 1 NULL (in), 2 IN- (in), 3 IN+ (in), 4 GND (power), 5 NULL (in), 6 OUT (out), 7 VDD (power), 8 NC

## TLC071CP
designator U?
Single Wide-Bandwidth High-Output-Drive Operational Amplifier, 4.5 to 16 V, 0 to 70 degC, 8-pin DIP (P8), Pb-Free (RoHS); Manufacturer: Texas Instruments; PartNumber: TLC071CP; CMRR(Min)(dB): 80; GBW(Typ)(MHz): 10; IIB(Max)(pA): 50; Iq per channel(Max)(mA): 2.5; Number of Channels: 1; Offset Drift(Typ)(uV/C): 1.2; Packing: TUBE; Rating: Catalog; Slew Rate(Typ)(V/us): 16; Sub Family: High Output Current Amplifier (>=50mA), Low Noise Amp (<=10nV/rtHz), Precision Amplifier; Total Supply Voltage(Min)(+5V is 5, +/-5V is 10): 4.5; Vio (25C)(Max)(mV): 1.9; DatasheetVersion: SLOS219F; PackageVersion: 4040082/E, 04/2010; PackageReference: P8; PackageDescription: 8-Pin Plastic In-Line, Body 9.59 x 6.35 mm, Pitch 2.54 mm; Supplier 1: Digi-Key; Supplier Part Number 1: 296-34321-5-ND; Supplier 2: Newark; Supplier Part Number 2: 76C6642; Supplier 3: Mouser; Supplier Part Number 3: 595-TLC071CP; Eco-Plan: Pb-Free (RoHS); Total Supply Voltage(Max)(+5V is 5, +/-5V is 10): 16; Mounting Technology: Through Hole; Code_JEDEC: MS-001; ComponentLink1Description: Manufacturer URL; ComponentLink1URL: http://www.ti.com/; ComponentLink2Description: Datasheet; ComponentLink2URL: http://www.ti.com/lit/ds/symlink/tlc071.pdf; ComponentLink3Description: Package Specification; ComponentLink3URL: http://www.ti.com/litv/pdf/mpdi001b
footprint TI-P8 (DIP, 8-Leads, Body 9.59x6.35mm, Pitch 2.54mm)
pins: 1 NULL (in), 2 IN- (in), 3 IN+ (in), 4 GND (power), 5 NULL (in), 6 OUT (out), 7 VDD (power), 8 NC

## TLC071CPE4
designator U?
Single Wide-Bandwidth High-Output-Drive Operational Amplifier, 4.5 to 16 V, 0 to 70 degC, 8-pin DIP (P8), Pb-Free (RoHS); Manufacturer: Texas Instruments; PartNumber: TLC071CPE4; CMRR(Min)(dB): 80; GBW(Typ)(MHz): 10; IIB(Max)(pA): 50; Iq per channel(Max)(mA): 2.5; Number of Channels: 1; Offset Drift(Typ)(uV/C): 1.2; Packing: TUBE; Rating: Catalog; Slew Rate(Typ)(V/us): 16; Sub Family: High Output Current Amplifier (>=50mA), Low Noise Amp (<=10nV/rtHz), Precision Amplifier; Total Supply Voltage(Min)(+5V is 5, +/-5V is 10): 4.5; Vio (25C)(Max)(mV): 1.9; DatasheetVersion: SLOS219F; PackageVersion: 4040082/E, 04/2010; PackageReference: P8; PackageDescription: 8-Pin Plastic In-Line, Body 9.59 x 6.35 mm, Pitch 2.54 mm; Supplier 1: Digi-Key; Supplier Part Number 1: TLC071CPE4-ND; Supplier 2: Mouser; Supplier Part Number 2: 595-TLC071CPE4; Eco-Plan: Pb-Free (RoHS); Total Supply Voltage(Max)(+5V is 5, +/-5V is 10): 16; Mounting Technology: Through Hole; Code_JEDEC: MS-001; ComponentLink1Description: Manufacturer URL; ComponentLink1URL: http://www.ti.com/; ComponentLink2Description: Datasheet; ComponentLink2URL: http://www.ti.com/lit/ds/symlink/tlc071.pdf; ComponentLink3Description: Package Specification; ComponentLink3URL: http://www.ti.com/litv/pdf/mpdi001b
footprint TI-P8 (DIP, 8-Leads, Body 9.59x6.35mm, Pitch 2.54mm)
pins: 1 NULL (in), 2 IN- (in), 3 IN+ (in), 4 GND (power), 5 NULL (in), 6 OUT (out), 7 VDD (power), 8 NC

## TLC071ID
designator U?
Single Wide-Bandwidth High-Output-Drive Operational Amplifier, 4.5 to 16 V, -40 to 125 degC, 8-pin SOIC (D8), Green (RoHS & no Sb/Br); Manufacturer: Texas Instruments; PartNumber: TLC071ID; CMRR(Min)(dB): 80; GBW(Typ)(MHz): 10; IIB(Max)(pA): 50; Iq per channel(Max)(mA): 2.5; Number of Channels: 1; Offset Drift(Typ)(uV/C): 1.2; Packing: TUBE; Rating: Catalog; Slew Rate(Typ)(V/us): 16; Sub Family: High Output Current Amplifier (>=50mA), Low Noise Amp (<=10nV/rtHz), Precision Amplifier; Total Supply Voltage(Min)(+5V is 5, +/-5V is 10): 4.5; Vio (25C)(Max)(mV): 1.9; DatasheetVersion: SLOS219F; PackageVersion: 4040047-3/M, 06/2011; PackageReference: D8; PackageDescription: 8-Pin Plastic Small Outline, Body 4.9 x 3.9 mm, Pitch 1.27 mm; Supplier 1: Digi-Key; Supplier Part Number 1: 296-34322-5-ND; Supplier 2: Farnell; Supplier Part Number 2: 1459718; Supplier 3: Newark; Supplier Part Number 3: 62M0381; Supplier 4: Newark; Supplier Part Number 4: 76C6643; Supplier 5: Mouser; Supplier Part Number 5: 595-TLC071ID; Eco-Plan: Green (RoHS & no Sb/Br); Total Supply Voltage(Max)(+5V is 5, +/-5V is 10): 16; Mounting Technology: Surface Mount; Code_JEDEC: MS-012; ComponentLink1Description: Manufacturer URL; ComponentLink1URL: http://www.ti.com/; ComponentLink2Description: Datasheet; ComponentLink2URL: http://www.ti.com/lit/ds/symlink/tlc071.pdf; ComponentLink3Description: Package Specification; ComponentLink3URL: http://www.ti.com/litv/pdf/msoi002j
footprint TI-D8_N (SOIC, 8-Leads, Body 4.9x3.9mm, Pitch 1.27mm, IPC Medium Density)
footprint TI-D8_L (SOIC, 8-Leads, Body 4.9x3.9mm, Pitch 1.27mm, IPC High Density)
footprint TI-D8_M (SOIC, 8-Leads, Body 4.9x3.9mm, Pitch 1.27mm, IPC Low Density)
pins: 1 NULL (in), 2 IN- (in), 3 IN+ (in), 4 GND (power), 5 NULL (in), 6 OUT (out), 7 VDD (power), 8 NC

## TLC071IDG4
designator U?
Single Wide-Bandwidth High-Output-Drive Operational Amplifier, 4.5 to 16 V, -40 to 125 degC, 8-pin SOIC (D8), Green (RoHS & no Sb/Br); Manufacturer: Texas Instruments; PartNumber: TLC071IDG4; CMRR(Min)(dB): 80; GBW(Typ)(MHz): 10; IIB(Max)(pA): 50; Iq per channel(Max)(mA): 2.5; Number of Channels: 1; Offset Drift(Typ)(uV/C): 1.2; Packing: TUBE; Rating: Catalog; Slew Rate(Typ)(V/us): 16; Sub Family: High Output Current Amplifier (>=50mA), Low Noise Amp (<=10nV/rtHz), Precision Amplifier; Total Supply Voltage(Min)(+5V is 5, +/-5V is 10): 4.5; Vio (25C)(Max)(mV): 1.9; DatasheetVersion: SLOS219F; PackageVersion: 4040047-3/M, 06/2011; PackageReference: D8; PackageDescription: 8-Pin Plastic Small Outline, Body 4.9 x 3.9 mm, Pitch 1.27 mm; Supplier 1: Digi-Key; Supplier Part Number 1: TLC071IDG4-ND; Supplier 2: Mouser; Supplier Part Number 2: 595-TLC071IDG4; Eco-Plan: Green (RoHS & no Sb/Br); Total Supply Voltage(Max)(+5V is 5, +/-5V is 10): 16; Mounting Technology: Surface Mount; Code_JEDEC: MS-012; ComponentLink1Description: Manufacturer URL; ComponentLink1URL: http://www.ti.com/; ComponentLink2Description: Datasheet; ComponentLink2URL: http://www.ti.com/lit/ds/symlink/tlc071.pdf; ComponentLink3Description: Package Specification; ComponentLink3URL: http://www.ti.com/litv/pdf/msoi002j
footprint TI-D8_N (SOIC, 8-Leads, Body 4.9x3.9mm, Pitch 1.27mm, IPC Medium Density)
footprint TI-D8_L (SOIC, 8-Leads, Body 4.9x3.9mm, Pitch 1.27mm, IPC High Density)
footprint TI-D8_M (SOIC, 8-Leads, Body 4.9x3.9mm, Pitch 1.27mm, IPC Low Density)
pins: 1 NULL (in), 2 IN- (in), 3 IN+ (in), 4 GND (power), 5 NULL (in), 6 OUT (out), 7 VDD (power), 8 NC

## TLC071IDGN
designator U?
Single Wide-Bandwidth High-Output-Drive Operational Amplifier, 4.5 to 16 V, -40 to 125 degC, 8-pin SOP (DGN8), Green (RoHS & no Sb/Br); Manufacturer: Texas Instruments; PartNumber: TLC071IDGN; CMRR(Min)(dB): 80; GBW(Typ)(MHz): 10; IIB(Max)(pA): 50; Iq per channel(Max)(mA): 2.5; Number of Channels: 1; Offset Drift(Typ)(uV/C): 1.2; Packing: TUBE; Rating: Catalog; Slew Rate(Typ)(V/us): 16; Sub Family: High Output Current Amplifier (>=50mA), Low Noise Amp (<=10nV/rtHz), Precision Amplifier; Total Supply Voltage(Min)(+5V is 5, +/-5V is 10): 4.5; Vio (25C)(Max)(mV): 1.9; DatasheetVersion: SLOS219F; PackageVersion: 4073271/F, 05/2011; PackageReference: DGN8-1760X1425TP; PackageDescription: 8-Pin Plastic Small Outline, Body 3 x 3 mm, Pitch 0.65 mm; Supplier 1: Digi-Key; Supplier Part Number 1: TLC071IDGN-ND; Supplier 2: Mouser; Supplier Part Number 2: 595-TLC071IDGN; Eco-Plan: Green (RoHS & no Sb/Br); Total Supply Voltage(Max)(+5V is 5, +/-5V is 10): 16; Mounting Technology: Surface Mount; Code_JEDEC: MO-187; ComponentLink1Description: Manufacturer URL; ComponentLink1URL: http://www.ti.com/; ComponentLink2Description: Datasheet; ComponentLink2URL: http://www.ti.com/lit/ds/symlink/tlc071.pdf; ComponentLink3Description: Package Specification; ComponentLink3URL: http://www.ti.com/litv/pdf/mpds046e
footprint TI-DGN8-1760X1425TP_N (SOP, 8-Leads, Body 3x3mm, Pitch 0.65mm, Thermal Pad 1.89x1.57mm, IPC Medium Density)
footprint TI-DGN8-1760X1425TP_L (SOP, 8-Leads, Body 3x3mm, Pitch 0.65mm, Thermal Pad 1.89x1.57mm, IPC High Density)
footprint TI-DGN8-1760X1425TP_M (SOP, 8-Leads, Body 3x3mm, Pitch 0.65mm, Thermal Pad 1.89x1.57mm, IPC Low Density)
pins: 1 NULL (in), 2 IN- (in), 3 IN+ (in), 4 GND (power), 5 NULL (in), 6 OUT (out), 7 VDD (power), 8 NC, 9 EP

## TLC071IDGNG4
designator U?
Single Wide-Bandwidth High-Output-Drive Operational Amplifier, 4.5 to 16 V, -40 to 125 degC, 8-pin SOP (DGN8), Green (RoHS & no Sb/Br); Manufacturer: Texas Instruments; PartNumber: TLC071IDGNG4; CMRR(Min)(dB): 80; GBW(Typ)(MHz): 10; IIB(Max)(pA): 50; Iq per channel(Max)(mA): 2.5; Number of Channels: 1; Offset Drift(Typ)(uV/C): 1.2; Packing: TUBE; Rating: Catalog; Slew Rate(Typ)(V/us): 16; Sub Family: High Output Current Amplifier (>=50mA), Low Noise Amp (<=10nV/rtHz), Precision Amplifier; Total Supply Voltage(Min)(+5V is 5, +/-5V is 10): 4.5; Vio (25C)(Max)(mV): 1.9; DatasheetVersion: SLOS219F; PackageVersion: 4073271/F, 05/2011; PackageReference: DGN8-1760X1425TP; PackageDescription: 8-Pin Plastic Small Outline, Body 3 x 3 mm, Pitch 0.65 mm; Supplier 1: Digi-Key; Supplier Part Number 1: TLC071IDGNG4-ND; Supplier 2: Mouser; Supplier Part Number 2: 595-TLC071IDGNG4; Eco-Plan: Green (RoHS & no Sb/Br); Total Supply Voltage(Max)(+5V is 5, +/-5V is 10): 16; Mounting Technology: Surface Mount; Code_JEDEC: MO-187; ComponentLink1Description: Manufacturer URL; ComponentLink1URL: http://www.ti.com/; ComponentLink2Description: Datasheet; ComponentLink2URL: http://www.ti.com/lit/ds/symlink/tlc071.pdf; ComponentLink3Description: Package Specification; ComponentLink3URL: http://www.ti.com/litv/pdf/mpds046e
footprint TI-DGN8-1760X1425TP_N (SOP, 8-Leads, Body 3x3mm, Pitch 0.65mm, Thermal Pad 1.89x1.57mm, IPC Medium Density)
footprint TI-DGN8-1760X1425TP_L (SOP, 8-Leads, Body 3x3mm, Pitch 0.65mm, Thermal Pad 1.89x1.57mm, IPC High Density)
footprint TI-DGN8-1760X1425TP_M (SOP, 8-Leads, Body 3x3mm, Pitch 0.65mm, Thermal Pad 1.89x1.57mm, IPC Low Density)
pins: 1 NULL (in), 2 IN- (in), 3 IN+ (in), 4 GND (power), 5 NULL (in), 6 OUT (out), 7 VDD (power), 8 NC, 9 EP